# EAGLE library part CAMERA-AU_85 (library p.peter-periphery)
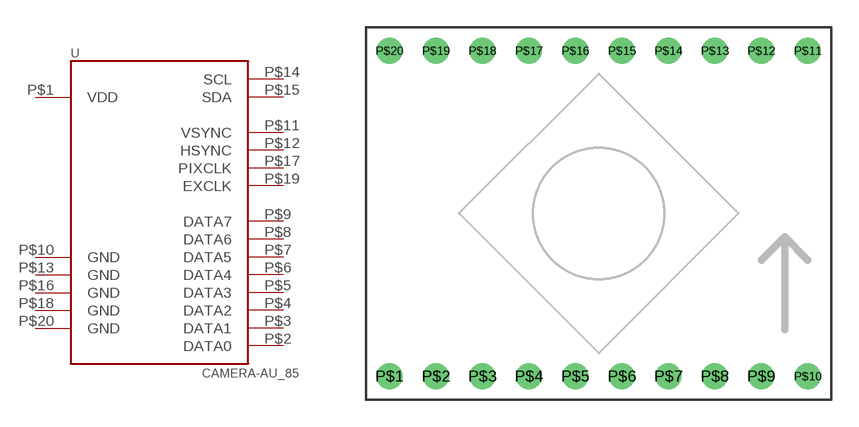
[diagram p0: symbol with the pads of CAMERA-AU_85-DIP; footprint CAMERA-AU_85-DIP]

Designator prefix -

## CAMERA-AU_85DIP  [CAMERA-AU_85-DIP]
P$1  VDD
P$2  DATA0
P$3  DATA1
P$4  DATA2
P$5  DATA3
P$6  DATA4
P$7  DATA5
P$8  DATA6
P$9  DATA7
P$10  GND
P$11  VSYNC
P$12  HSYNC
P$13  GND
P$14  SCL
P$15  SDA
P$16  GND
P$17  PIXCLK
P$18  GND
P$19  EXCLK
P$20  GND

## Footprint CAMERA-AU_85-DIP (pad centres in mm)
AU 85 camera module
drill 0.9: P$1 -11.43,-8.89; P$2 -8.89,-8.89; P$3 -6.35,-8.89; P$4 -3.81,-8.89; P$5 -1.27,-8.89; P$6 1.27,-8.89; P$7 3.81,-8.89; P$8 6.35,-8.89; P$9 8.89,-8.89; P$10 11.43,-8.89; P$11 11.43,8.89; P$12 8.89,8.89; P$13 6.35,8.89; P$14 3.81,8.89; P$15 1.27,8.89; P$16 -1.27,8.89; P$17 -3.81,8.89; P$18 -6.35,8.89; P$19 -8.89,8.89; P$20 -11.43,8.89